# Altium schematic symbol library Schlib1.SchLib: 37 symbols
Pins are listed as number, name and electrical type; pins without a type are passive.

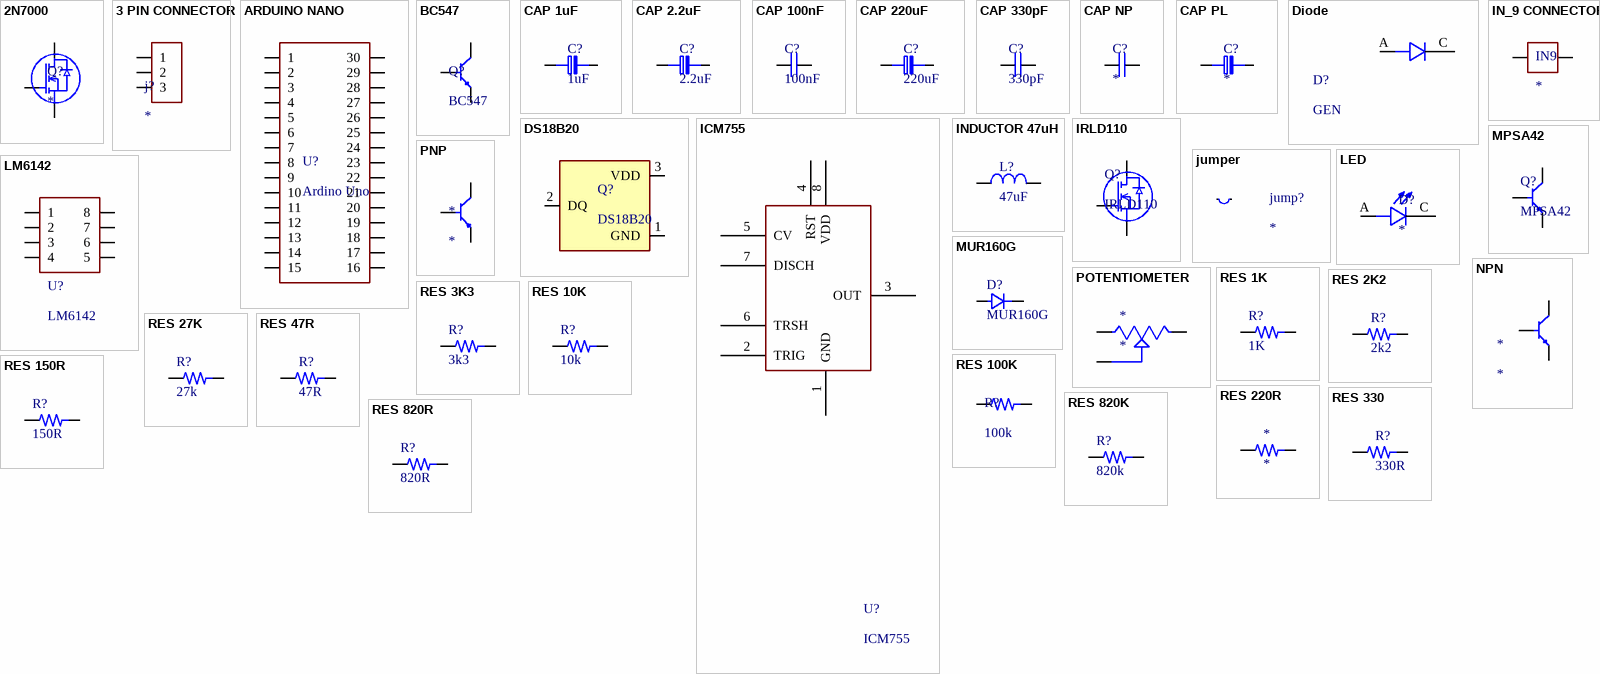
[diagram p0: symbols 2N7000 to RES 820R]

## 2N7000
designator Q?
footprint 2N7000
pins: 1, 2, 3

## 3 PIN CONNECTOR
designator j?
footprint 3 PIN CONNECTOR
pins: 1, 2, 3

## ARDUINO NANO
designator U?, comment Ardino Uno
footprint ARDUINO NANO
pins: 1, 2, 3, 4, 5, 6, 7, 8, 9, 10, 11, 12, 13, 14, 15, 16, 17, 18, 19, 20, 21, 22, 23, 24, 25, 26, 27, 28, 29, 30

## BC547
designator Q?
footprint BC547
pins: 1, 2, 3

## CAP 1uF
designator C?, comment 1uF
footprint CAP 1005
pins: 1, 2

## CAP 2.2uF
designator C?, comment 2.2uF
footprint CAP 1005
pins: 1, 2

## CAP 100nF
designator C?, comment 100nF
footprint CAP 0805
pins: 1, 2

## CAP 220uF
designator C?, comment 220uF
footprint CAP 1005
pins: 1, 2

## CAP 330pF
designator C?, comment 330pF
footprint CAP 0805
pins: 1, 2

## CAP NP
designator C?
pins: 1, 2

## CAP PL
designator C?
pins: 1, 2

## Diode
designator D?, comment GEN
pins: A, C

## DS18B20
designator Q?
footprint DS18B20
pins: 1 GND (power), 2 DQ (io), 3 VDD (power)

## ICM755
designator U?
Supplier 1: Digi-Key; Supplier Part Number 1: ICM7555ISA+TCT-ND
footprint ICM7555
pins: 1 GND, 2 TRIG, 3 OUT, 4 RST, 5 CV, 6 TRSH, 7 DISCH, 8 VDD

## IN_9 CONNECTOR
designator IN9
footprint IN 9
pins: 1, 2

## INDUCTOR 47uH
designator L?, comment 47uF
footprint INDUCTOR 47uH
pins: 1, 2

## IRLD110
designator Q?
footprint IRLD110
pins: D, G, S

## jumper
designator jump?
pins: 1, 2

## LED
designator D?
footprint LED
pins: A, C

## LM6142
designator U?
footprint LM6142
pins: 1, 2, 3, 4, 5, 6, 7, 8

## MPSA42
designator Q?
footprint MPSA42
pins: 1, 2, 3

## MUR160G
designator D?
footprint MUR160G
pins: A, K

## NPN
designator *
pins: G, G, G

## PNP
designator *
pins: G, G, G

## POTENTIOMETER
designator *
footprint POTENTIOMETER
pins: 1, 2, 3

## RES 1K
designator R?, comment 1K
footprint RES 1206
pins: 1, 2

## RES 2K2
designator R?, comment 2k2
footprint RES 1206
pins: 1, 2

## RES 3K3
designator R?, comment 3k3
footprint RES 1206
pins: 1, 2

## RES 10K
designator R?, comment 10k
footprint RES 1206
pins: 1, 2

## RES 27K
designator R?, comment 27k
footprint RES 1206
pins: 1, 2

## RES 47R
designator R?, comment 47R
footprint RES 1206
pins: 1, 2

## RES 100K
designator R?, comment 100k
footprint RES 1206
pins: 1, 2

## RES 150R
designator R?, comment 150R
footprint RES 1206
pins: 1, 2

## RES 220R
designator *
footprint RES 1206
pins: 1, 2

## RES 330
designator R?, comment 330R
footprint RES 1206
pins: 1, 2

## RES 820K
designator R?, comment 820k
footprint RES 1206
pins: 1, 2

## RES 820R
designator R?, comment 820R
footprint RES 1206
pins: 1, 2